# Altium schematic symbol library discrete_semiconductors.SchLib: 7 symbols
Pins are listed as number, name and electrical type; pins without a type are passive.

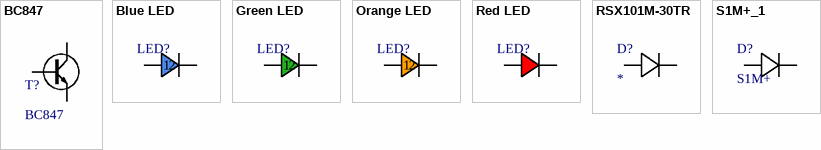
[diagram p0: symbols BC847 to S1M+_1]

## BC847
designator T?
ComponentLink1Description: Datasheet; ComponentLink1URL: https://assets.nexperia.com/documents/data-sheet/BC856_BC857_BC858.pdf
footprint SOT-23-3
pins: 1 B, 2 E, 3 C

## Blue LED
designator LED?  (value not drawn)
Nominal current: 20ma; Nominal voltage: 3.3V
footprint LED (0805)
pins: 1, 2

## Green LED
designator LED?  (value not drawn)
Nominal current: 2mA; Nominal voltage: 1.9V
footprint LED (0805)
pins: 1, 2

## Orange LED
designator LED?  (value not drawn)
Nominal current: 2mA; Nominal voltage: 1.8V
footprint LED (0805)
pins: 1, 2

## Red LED
designator LED?  (value not drawn)
Nominal current: 2mA; Nominal voltage: 1.95V; ComponentLink1Description: Datasheet; ComponentLink1URL: http://www.farnell.com/datasheets/2863963.pdf?_ga=2.217691222.1193962280.1589558354-303286379.1586364067&_gac=1.191757912.1589563198.Cj0KCQjw-_j1BRDkARIsAJcfmTFIG7O-lBwUzM7jXL1d54rcmK8ZCJrBZphKUIU-ia_1DnqilNgsh1YaAq1qEALw_wcB
footprint LED (0805)
pins: 1, 2

## RSX101M-30TR
designator D?
Vf (max): 350mV; If (max): 1A
footprint SOD-123
pins: 1, 2

## S1M+_1
designator D?, comment S1M+
V_reverse (max): 1000V; I_forward (max): 1A; V_forward (max): 1.1V; ComponentLink1Description: Datasheet; ComponentLink1URL: http://www.farnell.com/datasheets/2863963.pdf?_ga=2.217691222.1193962280.1589558354-303286379.1586364067&_gac=1.191757912.1589563198.Cj0KCQjw-_j1BRDkARIsAJcfmTFIG7O-lBwUzM7jXL1d54rcmK8ZCJrBZphKUIU-ia_1DnqilNgsh1YaAq1qEALw_wcB
footprint SMA
pins: 1, 2